# EAGLE library part 1932258-1 (library My_Library_RADAR)
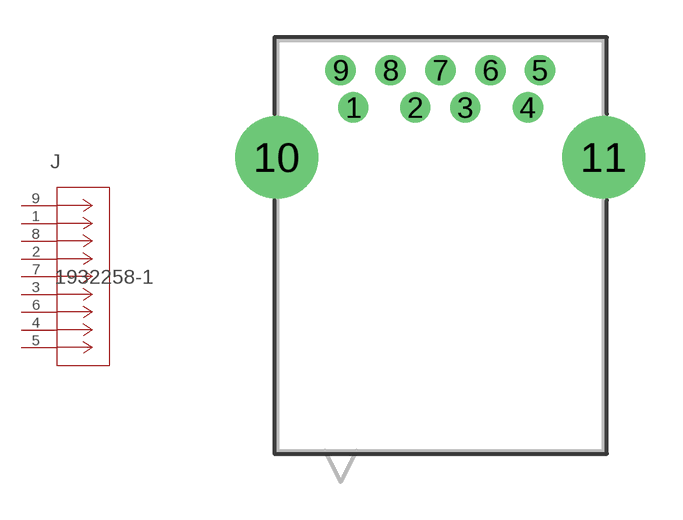
[diagram p29: symbol with the pads of CONN9_1932258_TEC; footprint CONN9_1932258_TEC]

Designator prefix J

## 1932258-1 (COPYRIGHT: Copyright (C) 2026 Ultra Librarian. All rights reserved.; DATASHEET: https://www.te.com/commerce/DocumentDelivery/DDEController?Action=srchrtrv&DocNm=501-115002&DocType=Specification+Or+Standard&DocLang=English&PartCntxt=1932258-1&DocFormat=pdf; DESCRIPTION: Std USB 3.0, Type A, R/A, T/H,; MANUFACTURER_NAME: TE Connectivity; MANUFACTURER_PART_NUMBER: 1932258-1)  [CONN9_1932258_TEC]
1  1  pas
2  2  pas
3  3  pas
4  4  pas
5  5  pas
6  6  pas
7  7  pas
8  8  pas
9  9  pas

## Footprint CONN9_1932258_TEC (pad centres in mm)
drill 0.711 pad 1.219: 1 0,0; 2 2.489,0; 3 4.496,0; 4 7.01,0; 5 7.493,1.499; 6 5.512,1.499; 7 3.505,1.499; 8 1.499,1.499; 9 -0.508,1.499
drill 2.311 pad 2.819: 10 -3.073,-2.007; 11 10.058,-2.007